# EAGLE library part LRTB_G6TG (library RGB_LED)
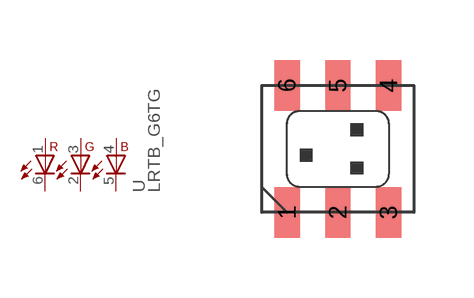
[diagram p0: symbol with the pads of LRTB_G6TG; footprint LRTB_G6TG]

Designator prefix -

## LRTB_G6TG  [LRTB_G6TG]
1  1
2  5
3  2
4  3
5  6
6  4

## Footprint LRTB_G6TG (pad centres in mm)
smd 0.635 x 1.27: 1 0.635,0; 2 1.905,0; 3 3.175,0; 4 3.175,3.175; 5 1.905,3.175; 6 0.635,3.175